# EAGLE library part ADC0832 (library digital-toy)
National Semiconductor ADC 0832, 2 channel, 8bit.
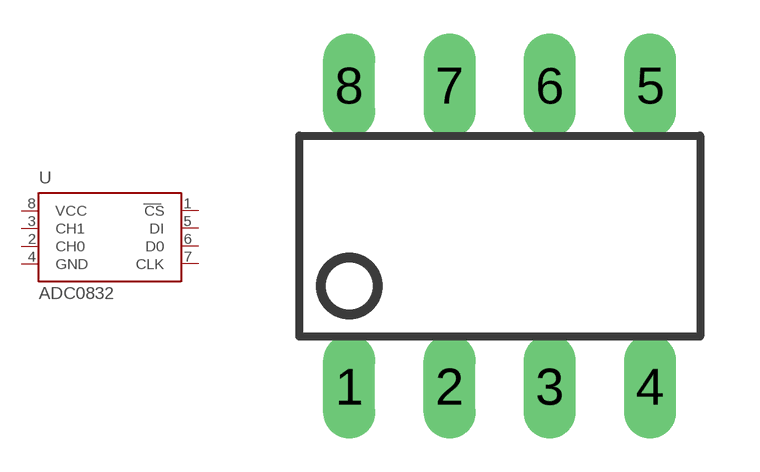
[diagram p6: symbol with the pads of DIP08-L; footprint DIP08-L]

Designator prefix -

## ADC0832-DIP08-L  [DIP08-L]
1  CS  in
2  CH0  in
3  CH1  in
4  GND  pwr
5  DI  in
6  D0  hiz
7  CLK  in
8  VCC  pwr

## Footprint DIP08-L (pad centres in mm)
drill 0.813 long: 1 0,-2.54; 2 2.54,-2.54; 3 5.08,-2.54; 4 7.62,-2.54; 5 7.62,5.08; 6 5.08,5.08; 7 2.54,5.08; 8 0,5.08